# EAGLE library part FLOPPY_INT (library Amiga)
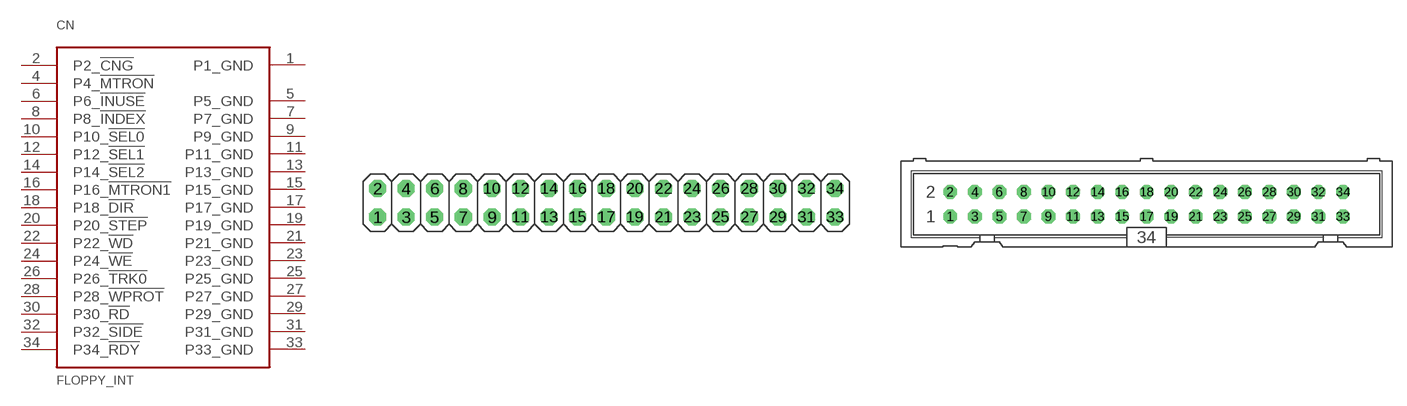
[diagram p32: symbol with the pads of 2X17; footprints 2X17, ML34]

Designator prefix CN

## FLOPPY_INT_HEADER  [2X17]
1  P1_GND  pwr
2  P2_!CNG!
4  P4_!MTRON
5  P5_GND  pwr
6  P6_!INUSE!
7  P7_GND  pwr
8  P8_!INDEX!
9  P9_GND  pwr
10  P10_!SEL0
11  P11_GND  pwr
12  P12_!SEL1
13  P13_GND  pwr
14  P14_!SEL2
15  P15_GND  pwr
16  P16_!MTRON1
17  P17_GND  pwr
18  P18_!DIR
19  P19_GND  pwr
20  P20_!STEP
21  P21_GND  pwr
22  P22_!WD
23  P23_GND  pwr
24  P24_!WE
25  P25_GND  pwr
26  P26_!TRK0
27  P27_GND  pwr
28  P28_!WPROT
29  P29_GND  pwr
30  P30_!RD
31  P31_GND  pwr
32  P32_!SIDE
33  P33_GND  pwr
34  P34_!RDY

## FLOPPY_INT  [ML34]
Pads as for 2X17

## Footprint 2X17 (pad centres in mm)
PIN HEADER
drill 1.016 octagon: 1 -20.32,-1.27; 2 -20.32,1.27; 3 -17.78,-1.27; 4 -17.78,1.27; 5 -15.24,-1.27; 6 -15.24,1.27; 7 -12.7,-1.27; 8 -12.7,1.27; 9 -10.16,-1.27; 10 -10.16,1.27; 11 -7.62,-1.27; 12 -7.62,1.27; 13 -5.08,-1.27; 14 -5.08,1.27; 15 -2.54,-1.27; 16 -2.54,1.27; 17 0,-1.27; 18 0,1.27; 19 2.54,-1.27; 20 2.54,1.27; 21 5.08,-1.27; 22 5.08,1.27; 23 7.62,-1.27; 24 7.62,1.27; 25 10.16,-1.27; 26 10.16,1.27; 27 12.7,-1.27; 28 12.7,1.27; 29 15.24,-1.27; 30 15.24,1.27; 31 17.78,-1.27; 32 17.78,1.27; 33 20.32,-1.27; 34 20.32,1.27

## Footprint ML34 (pad centres in mm)
HARTING
drill 0.914 octagon: 1 -20.32,-1.27; 2 -20.32,1.27; 3 -17.78,-1.27; 4 -17.78,1.27; 5 -15.24,-1.27; 6 -15.24,1.27; 7 -12.7,-1.27; 8 -12.7,1.27; 9 -10.16,-1.27; 10 -10.16,1.27; 11 -7.62,-1.27; 12 -7.62,1.27; 13 -5.08,-1.27; 14 -5.08,1.27; 15 -2.54,-1.27; 16 -2.54,1.27; 17 0,-1.27; 18 0,1.27; 19 2.54,-1.27; 20 2.54,1.27; 21 5.08,-1.27; 22 5.08,1.27; 23 7.62,-1.27; 24 7.62,1.27; 25 10.16,-1.27; 26 10.16,1.27; 27 12.7,-1.27; 28 12.7,1.27; 29 15.24,-1.27; 30 15.24,1.27; 31 17.78,-1.27; 32 17.78,1.27; 33 20.32,-1.27; 34 20.32,1.27